# EAGLE library part 172064-0012 (library Molex connectors)
MOLEX 12-pin ATX power connector
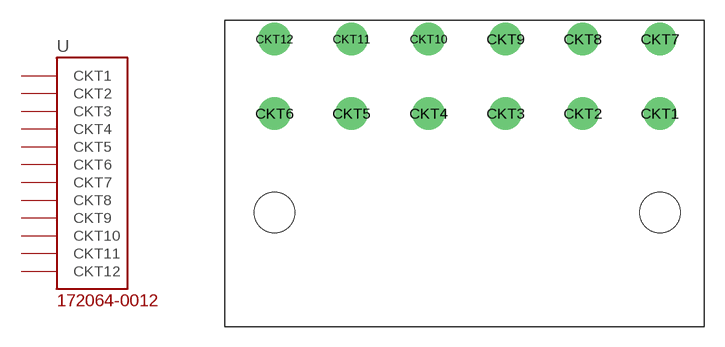
[diagram p0: symbol with the pads of 172064-0012; footprint 172064-0012]

Designator prefix -

## 172064-0012  [172064-0012]
CKT1  CKT1
CKT2  CKT2
CKT3  CKT3
CKT4  CKT4
CKT5  CKT5
CKT6  CKT6
CKT7  CKT7
CKT8  CKT8
CKT9  CKT9
CKT10  CKT10
CKT11  CKT11
CKT12  CKT12

## Footprint 172064-0012 (pad centres in mm)
drill 1.6: CKT1 32.17,15.75; CKT2 26.47,15.75; CKT3 20.77,15.75; CKT4 15.07,15.75; CKT5 9.37,15.75; CKT6 3.67,15.75; CKT7 32.17,21.25; CKT8 26.47,21.25; CKT9 20.77,21.25; CKT10 15.07,21.25; CKT11 9.37,21.25; CKT12 3.67,21.25
hole 3 at 3.67,8.45
hole 3 at 32.17,8.45